# Altium footprint library VZ30C1T8460002L.PcbLib: 1 footprints
Each footprint in its own frame and in the unit in brackets; x right, y up, seen from the top. Pads: shape width x height; smd on the part's side, far side on the other; paste and mask are expansions set on the pad; w line width, h text height; cw(c..) or ccw(c..) is an arc to the next point about the centre after c.
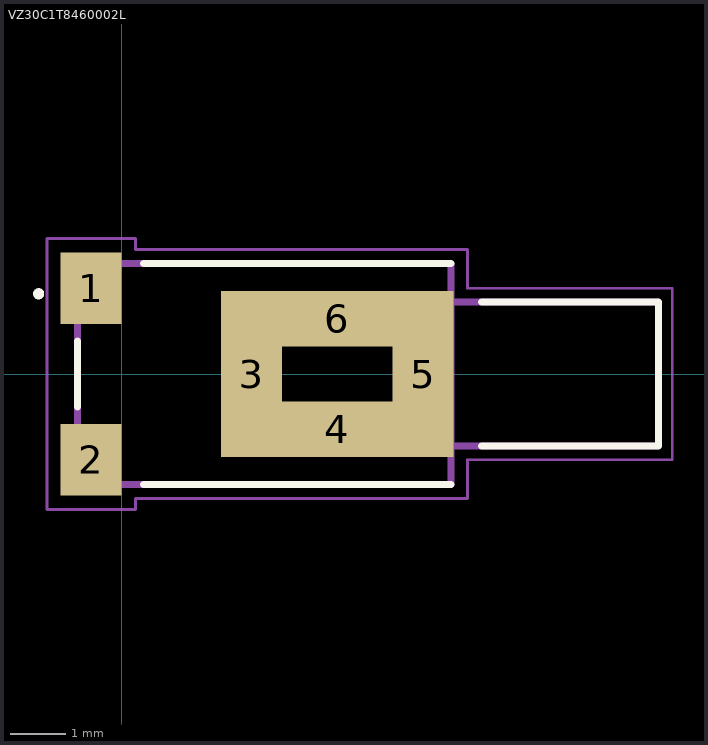
[diagram p0: the footprint, top view; thin cyan lines are the x and y axes]

## VZ30C1T8460002L [mm]
pads (6):
  rect 1.1x1.3 smd: 1(-0.55,1.55) 2(-0.55,-1.55)
  rect 1.1x3 smd: 3(2.35,0) 5(5.45,0)
  rect 2x1 smd: 4(3.9,-1) 6(3.9,1)
Top Overlay:
  circle w0.1: c-1.5,1.45 r0.05
  lines w0.127: -0.8,-0.6 -0.8,0.6 ; 0.4,-2 5.95,-2 ; 0.4,2 5.95,2 ; 6.5,-1.3 9.7,-1.3 9.7,1.3 6.5,1.3
Top 3D Body:
  lines w0.127: 6,1.3 9.7,1.3 9.7,-1.3 5.95,-1.3 ; 5.95,-1.3 5.95,2 -0.8,2 -0.8,-2 5.95,-2 5.95,-1.3
Top Courtyard:
  lines w0.05: -1.35,-2.45 -1.35,2.45 0.25,2.45 0.25,2.25 6.25,2.25 6.25,1.55 9.95,1.55 9.95,-1.55 6.25,-1.55 6.25,-2.25 0.25,-2.25 0.25,-2.45 -1.35,-2.45
3D body "Z30C1T8219731--3DModel-STEP-433901.STEP": height 3.4, standoff 0, extent -0.858,-2 9.642,2